# EAGLE library part 12B4-P (library pedals-tubes)
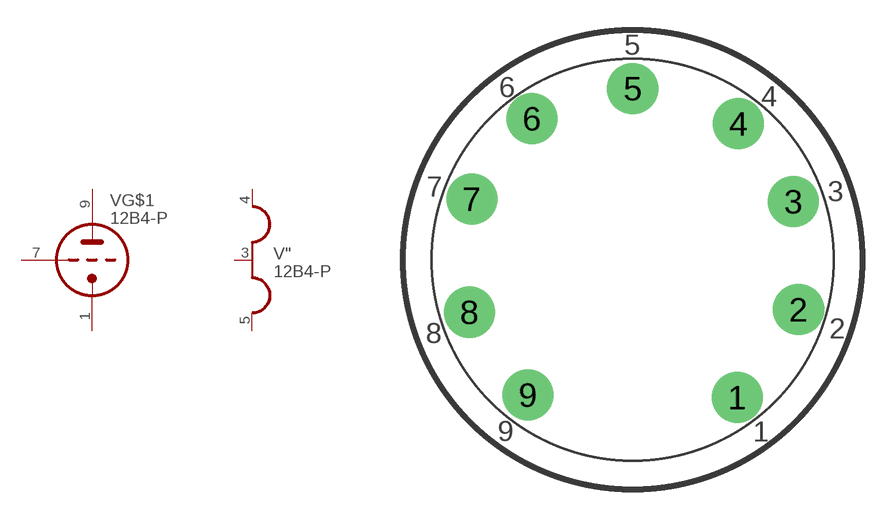
[diagram p74: symbol with the pads of NOVAL; footprint NOVAL]

Designator prefix V; gates G$1=TRIODE "=HEATER_2

## 12B4-P  [NOVAL]
1  G$1:TK  pas
3  ":H2  pas
4  ":H1  pas
5  ":H3  pas
7  G$1:TG  pas
9  G$1:TA  pas

## Footprint NOVAL (pad centres in mm)
drill 1.422 pad 2.54: 1 5.207,-6.858; 2 8.254,-2.484; 3 8.004,2.893; 4 5.258,6.77; 5 0,8.524; 6 -5.004,7.024; 7 -8.004,3.02; 8 -8.127,-2.611; 9 -5.207,-6.731